# Altium footprint library SM_TCO_Bournes_SC.PcbLib: 1 footprints
Each footprint in its own frame and in the unit in brackets; x right, y up, seen from the top. Pads: shape width x height; smd on the part's side, far side on the other; paste and mask are expansions set on the pad; w line width, h text height; cw(c..) or ccw(c..) is an arc to the next point about the centre after c.
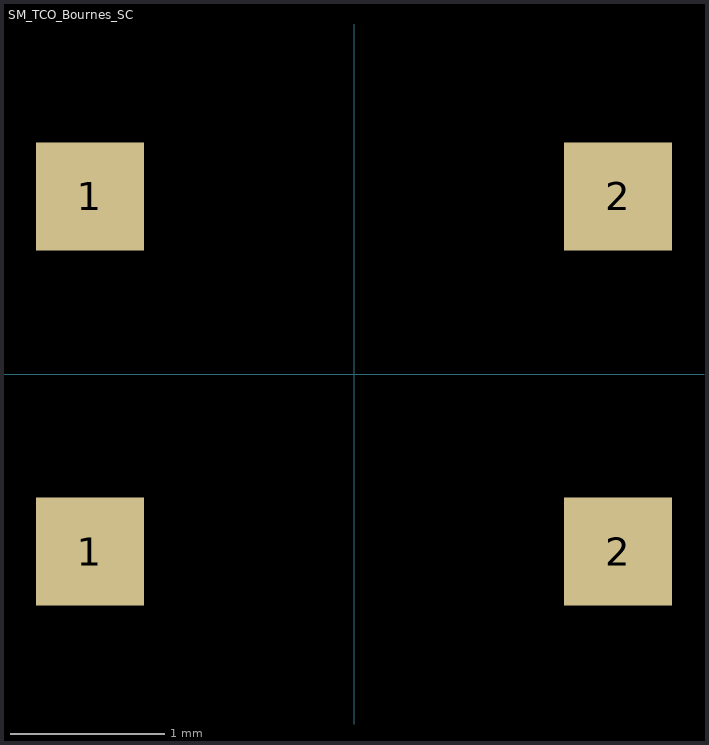
[diagram p0: the footprint, top view; thin cyan lines are the x and y axes]

## SM_TCO_Bournes_SC [mm] "SC Series Mini-Breaker TCO"
height 1.07
pads (4):
  rect 0.7x0.7 smd: 1(-1.71,-1.15) 1(-1.71,1.15) 2(1.71,-1.15) 2(1.71,1.15)
3D body "SC_AAA.STP": height 1.04, standoff -0.03, extent -2.35,-1.4 2.35,1.4